# Altium footprint library SOD323F-SC90.PcbLib: 1 footprints
Each footprint in its own frame and in the unit in brackets; x right, y up, seen from the top. Pads: shape width x height; smd on the part's side, far side on the other; paste and mask are expansions set on the pad; w line width, h text height; cw(c..) or ccw(c..) is an arc to the next point about the centre after c.
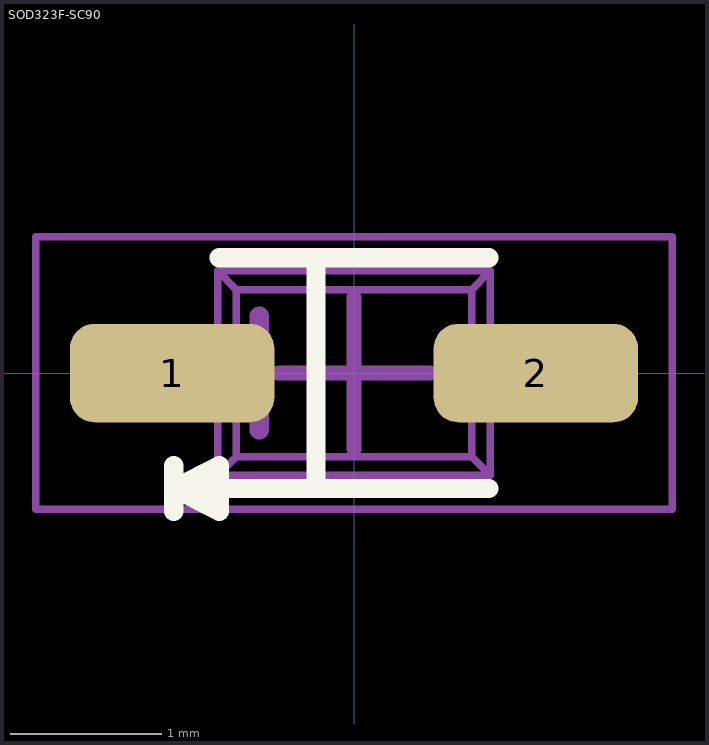
[diagram p0: the footprint, top view; thin cyan lines are the x and y axes]

## SOD323F-SC90 [mm] "SOD323F-SC90"
height 0.8
pads (2):
  rrect50% 1.35x0.65 smd: 1(-1.2,0) 2(1.2,0)
Top Overlay:
  lines w0.127: -1.189,-0.912 -1.189,-0.612 ; -0.889,0.762 0.889,0.762 ; -0.25,-0.762 -0.25,0.762 ; 0.889,-0.762 -0.889,-0.762 -1.189,-0.762 ; -1.189,-0.762 -0.889,-0.612 -0.889,-0.912 -1.189,-0.762
Top Assembly:
  lines w0.05: -0.9,-0.2 -1.25,-0.2 -1.25,0.2 -0.9,0.2 ; 0.9,-0.2 1.25,-0.2 1.25,0.2 0.9,0.2 ; -0.9,-0.675 0.9,-0.675 ; -0.9,-0.675 -0.9,0.675 ; -0.9,-0.675 -0.776,-0.551 ; -0.9,0.675 0.9,0.675 ; -0.9,0.675 -0.776,0.551 ; -0.776,-0.551 0.776,-0.551 ; -0.776,-0.551 -0.776,0.551 ; -0.776,0.551 0.776,0.551 ; 0.776,-0.551 0.776,0.551 ; 0.776,-0.551 0.9,-0.675 ; 0.776,0.551 0.9,0.675 ; 0.9,-0.675 0.9,0.675
  lines w0.127: -0.625,-0.375 -0.625,0.375
Top Courtyard:
  lines w0.05: -2.1,-0.9 2.1,-0.9 2.1,0.9 -2.1,0.9 -2.1,-0.9
  lines w0.1: -0.5,0 0.5,0 ; 0,-0.5 0,0.5
3D body "SOD323F.STEP": height 1, standoff 0, extent -1.25,-0.675 1.25,0.675